# EAGLE library part FH12-18S-0.5SV(55) (library MM24I)
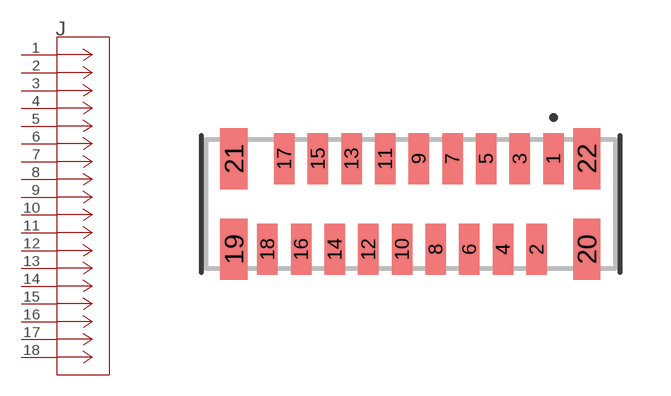
[diagram p7: symbol with the pads of CON18_1X18_DUTB_HRS; footprint CON18_1X18_DUTB_HRS]

Designator prefix J

## FH12-18S-0.5SV(55) (BUILT_BY: EMA_UL_Team; MANUFACTURER_PART_NUMBER: FH12-18S-0.5SV(55); VENDOR: Hirose)  [CON18_1X18_DUTB_HRS]
1  1  pas
2  2  pas
3  3  pas
4  4  pas
5  5  pas
6  6  pas
7  7  pas
8  8  pas
9  9  pas
10  10  pas
11  11  pas
12  12  pas
13  13  pas
14  14  pas
15  15  pas
16  16  pas
17  17  pas
18  18  pas

## Footprint CON18_1X18_DUTB_HRS (pad centres in mm)
smd 0.61 x 1.524: 1 0,5.385; 2 -0.5,2.692; 3 -1,5.385; 4 -1.5,2.692; 5 -2,5.385; 6 -2.5,2.692; 7 -3,5.385; 8 -3.5,2.692; 9 -4,5.385; 10 -4.5,2.692; 11 -5,5.385; 12 -5.5,2.692; 13 -6,5.385; 14 -6.5,2.692; 15 -7,5.385; 16 -7.5,2.692; 17 -8,5.385; 18 -8.5,2.692
smd 0.813 x 1.803: 19 -9.495,2.692; 20 0.995,2.692; 21 -9.495,5.385; 22 0.995,5.385